# EAGLE library part ERF8-037-XX-X-D-RA (library con-samtec-er8)
ERF8 Series - Female Right Angle Edge Mount
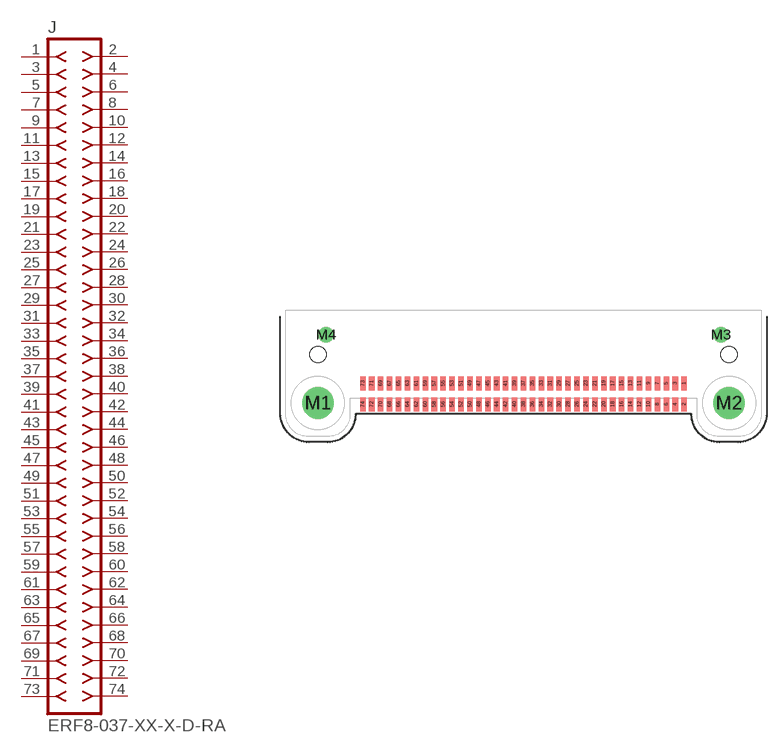
[diagram p38: symbol with the pads of ERF8-037-XX-X-D-RA; footprint ERF8-037-XX-X-D-RA]

Designator prefix J

## ERF8-037-XX-X-D-RA  [ERF8-037-XX-X-D-RA]
1  1  pas
2  2  pas
3  3  pas
4  4  pas
5  5  pas
6  6  pas
7  7  pas
8  8  pas
9  9  pas
10  10  pas
11  11  pas
12  12  pas
13  13  pas
14  14  pas
15  15  pas
16  16  pas
17  17  pas
18  18  pas
19  19  pas
20  20  pas
21  21  pas
22  22  pas
23  23  pas
24  24  pas
25  25  pas
26  26  pas
27  27  pas
28  28  pas
29  29  pas
30  30  pas
31  31  pas
32  32  pas
33  33  pas
34  34  pas
35  35  pas
36  36  pas
37  37  pas
38  38  pas
39  39  pas
40  40  pas
41  41  pas
42  42  pas
43  43  pas
44  44  pas
45  45  pas
46  46  pas
47  47  pas
48  48  pas
49  49  pas
50  50  pas
51  51  pas
52  52  pas
53  53  pas
54  54  pas
55  55  pas
56  56  pas
57  57  pas
58  58  pas
59  59  pas
60  60  pas
61  61  pas
62  62  pas
63  63  pas
64  64  pas
65  65  pas
66  66  pas
67  67  pas
68  68  pas
69  69  pas
70  70  pas
71  71  pas
72  72  pas
73  73  pas
74  74  pas

## Footprint ERF8-037-XX-X-D-RA (pad centres in mm)
0.8mm Edge Rate Terminal Assembly FEMALE, Double Row Right Angle, 37 Position
smd 0.5 x 1.25: 1 13.6,0.94; 2 13.6,-0.94; 3 12.8,0.94; 4 12.8,-0.94; 5 12,0.94; 6 12,-0.94; 7 11.2,0.94; 8 11.2,-0.94; 9 10.4,0.94; 10 10.4,-0.94; 11 9.6,0.94; 12 9.6,-0.94; 13 8.8,0.94; 14 8.8,-0.94; 15 8,0.94; 16 8,-0.94; 17 7.2,0.94; 18 7.2,-0.94; 19 6.4,0.94; 20 6.4,-0.94; 21 5.6,0.94; 22 5.6,-0.94; 23 4.8,0.94; 24 4.8,-0.94; 25 4,0.94; 26 4,-0.94; 27 3.2,0.94; 28 3.2,-0.94; 29 2.4,0.94; 30 2.4,-0.94; 31 1.6,0.94; 32 1.6,-0.94; 33 0.8,0.94; 34 0.8,-0.94; 35 0,0.94; 36 0,-0.94; 37 -0.8,0.94; 38 -0.8,-0.94; 39 -1.6,0.94; 40 -1.6,-0.94; 41 -2.4,0.94; 42 -2.4,-0.94; 43 -3.2,0.94; 44 -3.2,-0.94; 45 -4,0.94; 46 -4,-0.94; 47 -4.8,0.94; 48 -4.8,-0.94; 49 -5.6,0.94; 50 -5.6,-0.94; 51 -6.4,0.94; 52 -6.4,-0.94; 53 -7.2,0.94; 54 -7.2,-0.94; 55 -8,0.94; 56 -8,-0.94; 57 -8.8,0.94; 58 -8.8,-0.94; 59 -9.6,0.94; 60 -9.6,-0.94; 61 -10.4,0.94; 62 -10.4,-0.94; 63 -11.2,0.94; 64 -11.2,-0.94; 65 -12,0.94; 66 -12,-0.94; 67 -12.8,0.94; 68 -12.8,-0.94; 69 -13.6,0.94; 70 -13.6,-0.94; 71 -14.4,0.94; 72 -14.4,-0.94; 73 -15.2,0.94; 74 -15.2,-0.94
drill 1.905 pad 2.41 round: M1 -19.225,-0.835; M2 17.625,-0.835
drill 0.63 pad 1.4 round: M3 16.9,5.295; M4 -18.5,5.295
hole 1.45 at -19.225,3.515
hole 1.45 at 17.625,3.515